# Altium footprint library LB - V01-R01.PcbLib: 25 footprints (part 2 of 2)
Each footprint in its own frame and in the unit in brackets; x right, y up, seen from the top. Pads: shape width x height; smd on the part's side, far side on the other; paste and mask are expansions set on the pad; w line width, h text height; cw(c..) or ccw(c..) is an arc to the next point about the centre after c.
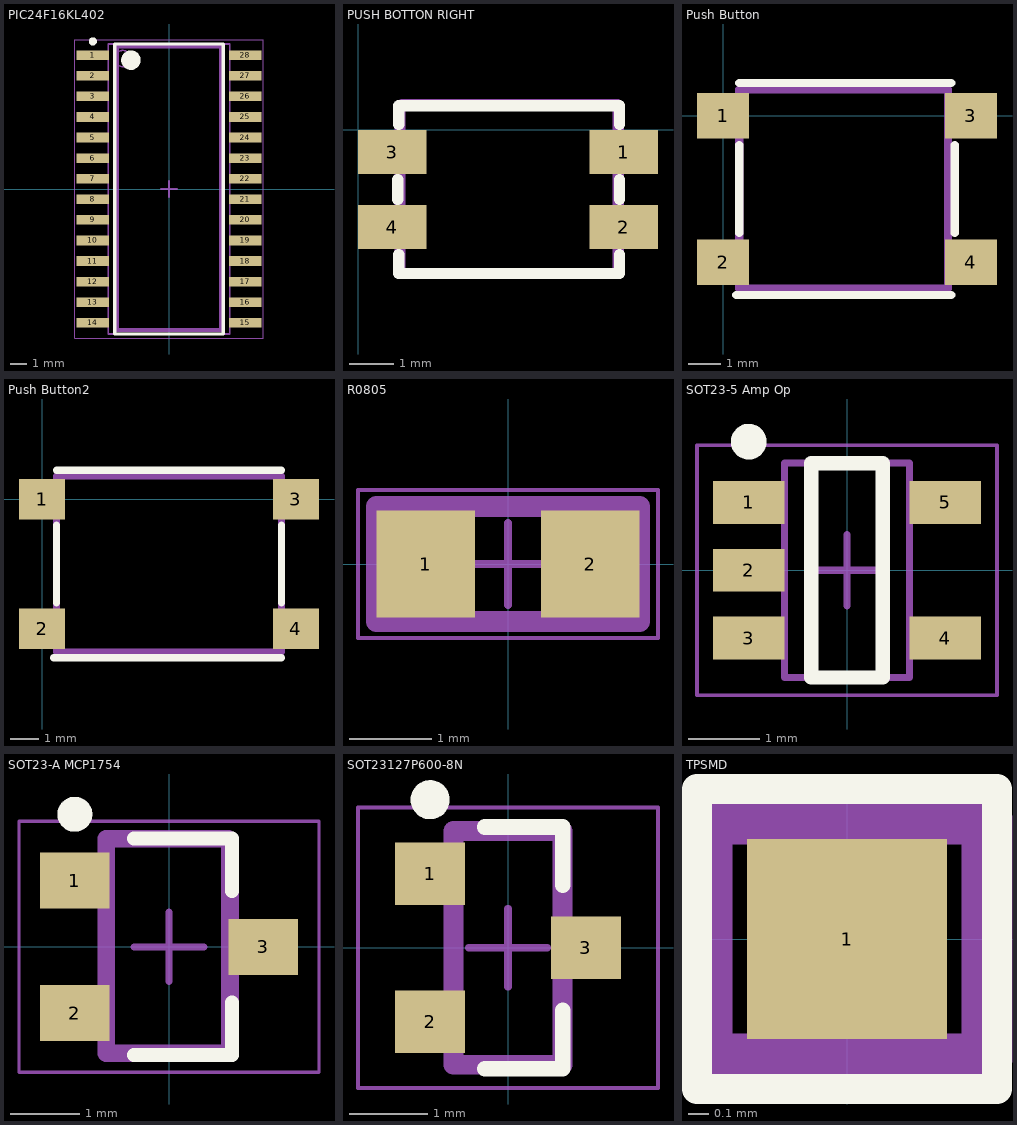
[diagram p1: the footprints below, top view; thin cyan lines are the x and y axes]

## PIC24F16KL402 [mm] "SOIC, 28-Leads, Body 17.90x7.50mm, Pitch 1.27mm, IPC Medium Density"
height 2.65
pads (28):
  rect 2x0.6 smd: 1(-4.7,8.255) 2(-4.7,6.985) 3(-4.7,5.715) 4(-4.7,4.445) 5(-4.7,3.175) 6(-4.7,1.905) 7(-4.7,0.635) 8(-4.7,-0.635) 9(-4.7,-1.905) 10(-4.7,-3.175) 11(-4.7,-4.445) 12(-4.7,-5.715) 13(-4.7,-6.985) 14(-4.7,-8.255) 15(4.7,-8.255) 16(4.7,-6.985) 17(4.7,-5.715) 18(4.7,-4.445) 19(4.7,-3.175) 20(4.7,-1.905) 21(4.7,-0.635) 22(4.7,0.635) 23(4.7,1.905) 24(4.7,3.175) 25(4.7,4.445) 26(4.7,5.715) 27(4.7,6.985) 28(4.7,8.255)
Top Overlay:
  circle w0.6: c-2.35,7.95 r0.3
  circle w0.25: c-4.7,9.105 r0.125
  lines w0.2: -3.35,-8.95 3.35,-8.95 3.35,8.95 -3.35,8.95 -3.35,-8.95
Mechanical 13:
  circle w0.1: c-2.85,8.05 r0.5
  lines w0.1: -3.75,-8.95 3.75,-8.95 3.75,8.95 -3.75,8.95 -3.75,-8.95
Mechanical 15:
  lines w0.05: -5.825,-9.2 5.825,-9.2 5.825,9.2 -5.825,9.2 -5.825,-9.2
  lines w0.1: -0.5,0 0.5,0 ; 0,-0.5 0,0.5
Mechanical 31:
  lines w0.254: -3.2,-8.7 3.2,-8.7 3.2,8.3 3.2,8.8 -3.2,8.8 -3.2,-8.7
  text ".Designator" at -3.6,-10.4 h0.8
3D body: height 2.65, standoff 0.1, extent -3.75,-8.95 3.75,8.95

## PUSH BOTTON RIGHT [mm] "Push botton montagem superfície"
pads (4):
  rect 1.55x1 smd: 1(6.025,-0.5) 2(6.025,-2.2) 3(0.775,-0.5) 4(0.775,-2.2)
Top Overlay:
  lines w0.254: 0.9,-1.575 0.9,-1.125 ; 0.925,-2.825 0.925,-3.25 5.925,-3.25 5.925,-2.825 ; 0.925,0.125 0.925,0.55 5.925,0.55 5.925,0.125 ; 5.925,-1.575 5.925,-1.125
Mechanical 31:
  lines w0.254: 0.95,-3.25 5.9,-3.25 5.9,0.55 5.875,0.575 1,0.575 0.95,0.525 0.95,-3.25
  text ".Designator" at 0.875,-4.325 h0.5
3D body: height 1.65, standoff 0, extent 0.225,-4.125 6.625,0.415

## Push Button [mm]
pads (4):
  rect 1.6x1.4 smd: 1(0,0) 2(0,-4.5) 3(7.6,0) 4(7.6,-4.5)
Top Overlay:
  lines w0.254: 0.4,-5.5 7,-5.5 ; 0.5,-3.6 0.5,-0.9 ; 0.5,1 7,1 ; 7.1,-3.6 7.1,-0.9
Mechanical 31:
  lines w0.254: 0.5,-5.3 0.5,-4.9 0.5,0.8 0.6,0.8 6.9,0.8 6.9,0.1 6.9,-5.3 0.5,-5.3
  text ".Designator" at 0.4,-6.5 h0.8
3D body: height 4.9, standoff 1.4, extent 2.064,-3.996 5.55,-0.503
3D body: height 3.6, standoff 0, extent 0.7,-5.2 6.9,0.7

## Push Button2 [mm]
pads (4):
  rect 1.6x1.4 smd: 1(0,0) 2(0,-4.5) 3(8.8,0) 4(8.8,-4.5)
Top Overlay:
  lines w0.254: 0.4,-5.5 8.3,-5.5 ; 0.5,-3.6 0.5,-0.9 ; 0.5,1 8.3,1 ; 8.3,-3.6 8.3,-0.9
Mechanical 31:
  lines w0.254: 0.5,-5.3 8.3,-5.3 8.3,0.8 0.6,0.8 0.5,0.8 0.5,-4.9 0.5,-5.3
  text ".Designator" at 0.4,-6.5 h0.8
3D body: height 7.1, standoff -0.01, extent -0.6,-5.2 9.4,0.8

## R0805 [mm] "Molded Resistor, 2-Leads, Body 2.00x1.25mm, IPC Medium Density"
height 0.6
pads (2):
  rect 1.2x1.3 smd: 1(-1,0) 2(1,0)
Mechanical 1:
  lines w0.1: -1.05,-0.63 1.05,-0.63 1.05,0.63 -1.05,0.63 -1.05,-0.63
Mechanical 15:
  lines w0.05: -1.825,-0.9 -1.825,0.9 1.825,0.9 1.825,-0.9 -1.825,-0.9
  lines w0.1: -0.5,0 0.5,0 ; 0,-0.5 0,0.5
Mechanical 31:
  lines w0.254: -1.6,-0.7 -1.6,0.7 1.6,0.7 1.6,-0.7 -1.6,-0.7
  text ".Designator" at -1.7,-1.8 h0.8
3D body: height 0.6, standoff 0, extent -1.05,-0.63 1.05,0.63

## SOT23-5 Amp Op [mm] "Amp Op"
height 1.45
pads (5):
  rect 1x0.6 smd: 1(-1.375,0.95) 2(-1.375,0) 3(-1.375,-0.95) 4(1.375,-0.95) 5(1.375,0.95)
Top Overlay:
  circle w0.25: c-1.375,1.8 r0.125
  lines w0.2: -0.5,-1.5 0.5,-1.5 0.5,1.5 -0.5,1.5 -0.5,-1.5
Mechanical 13:
  lines w0.1: -0.875,-1.5 -0.875,1.5 0.875,1.5 0.875,-1.5 -0.875,-1.5
Mechanical 15:
  lines w0.05: -2.1,-1.75 -2.1,1.75 2.1,1.75 2.1,-1.75 -2.1,-1.75
  lines w0.1: -0.5,0 0.5,0 ; 0,-0.5 0,0.5
Mechanical 31:
  text ".Designator" at -2.13,-2.66 h0.8
3D body: height 1.45, standoff 0.15, extent -0.875,-1.5 0.875,1.5

## SOT23-A MCP1754 [mm] "MCP1754"
height 1.1
pads (3):
  rect 1x0.8 smd: 1(-1.35,0.95) 2(-1.35,-0.95) 3(1.35,0)
Top Overlay:
  circle w0.25: c-1.35,1.9 r0.125
  lines w0.2: -0.5,-1.55 0.9,-1.55 0.9,-0.8 ; -0.5,1.55 0.9,1.55 0.9,0.8
Mechanical 13:
  lines w0.1: -0.9,-1.55 -0.9,1.55 0.9,1.55 0.9,-1.55 -0.9,-1.55
Mechanical 15:
  lines w0.05: -2.15,-1.8 -2.15,1.8 2.15,1.8 2.15,-1.8 -2.15,-1.8
  lines w0.1: -0.5,0 0.5,0 ; 0,-0.5 0,0.5
Mechanical 31:
  lines w0.254: -0.9,-1.525 -0.9,1.55 0.85,1.55 0.875,1.525 0.875,-1.5 0.85,-1.525 -0.9,-1.525
  text ".Designator" at -0.825,-1.175 h0.8
3D body: height 1.1, standoff 0.05, extent -0.9,-1.55 0.9,1.55

## SOT23127P600-8N [mm]
height 1.12
pads (3):
  rect 0.9x0.8 smd: 1(-1,0.95) 2(-1,-0.95) 3(1,0)
Top Overlay:
  circle w0.25: c-1,1.9 r0.125
  lines w0.2: -0.3,-1.55 0.7,-1.55 0.7,-0.8 ; -0.3,1.55 0.7,1.55 0.7,0.8
Mechanical 1:
  lines w0.1: -0.7,-1.525 -0.7,1.525 0.7,1.525 0.7,-1.525 -0.7,-1.525
Mechanical 15:
  lines w0.05: -1.925,-1.8 -1.925,1.8 1.925,1.8 1.925,-1.8 -1.925,-1.8
  lines w0.1: -0.5,0 0.5,0 ; 0,-0.5 0,0.5
Mechanical 31:
  lines w0.254: -0.7,-1.5 0.7,-1.5 0.7,1.5 -0.7,1.5 -0.7,-1.5
  text ".Designator" at -1.9,-2.8 h0.8
3D body: height 1.12, standoff 0.1, extent -0.7,-1.525 0.7,1.525

## TPSMD [mm] "Test Point SMD"
pads (1):
  rect 1x1 smd: 1(0,0)
Top Overlay:
  lines w0.152: -0.75,-0.75 0.75,-0.75 0.75,0.75 -0.75,0.75 -0.75,-0.75
Mechanical 31:
  lines w0.254: -0.7,-0.6 0.6,-0.6 0.7,-0.6 0.7,0.6 -0.7,0.6 -0.7,-0.6
  text ".Designator" at -0.7,-1.8 h0.8